# Altium schematic symbol library TPS72733DSET.SchLib: 1 symbol
Pins are listed as number, name and electrical type; pins without a type are passive.

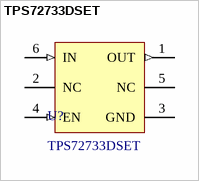
[diagram p0: symbol TPS72733DSET]

## TPS72733DSET
designator U?
=Description
pins: 1 OUT (out), 2 NC, 3 GND (power), 4 EN (in), 5 NC, 6 IN (in)